# EAGLE library part IMS-TG-DMS (library di_pcb)
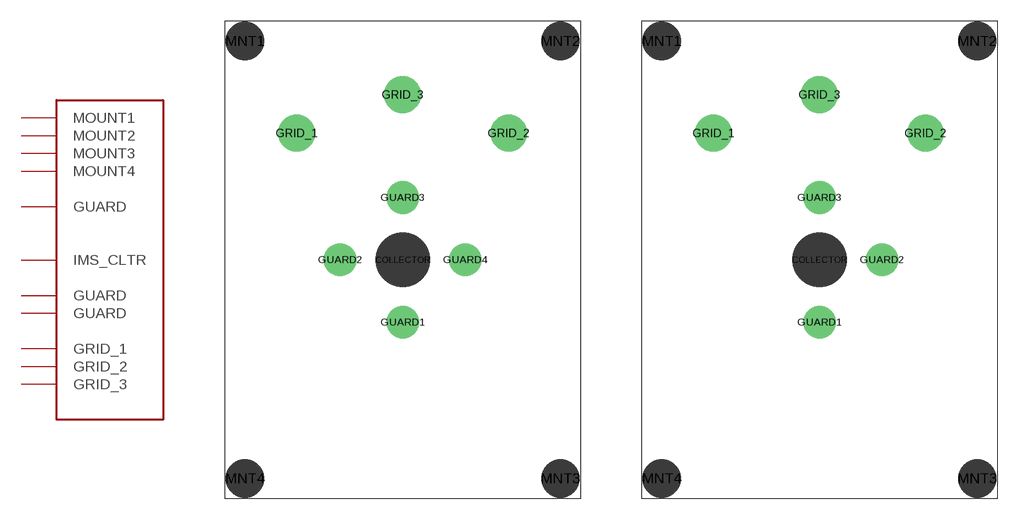
[diagram p0: symbol with the pads of IMS-TG-DMS; footprints IMS-TG-DMS, IMS-TG-DMS2]

Designator prefix J

## IMS-TG-DMS  [IMS-TG-DMS]
COLLECTOR  IMS_CLTR
GRID_1  GRID_1
GRID_2  GRID_2
GRID_3  GRID_3
GUARD1  GUARD
GUARD2  GUARD
GUARD3  GUARD
MNT1  MOUNT1
MNT2  MOUNT2
MNT3  MOUNT3
MNT4  MOUNT4

## IMS-TG-DMS2  [IMS-TG-DMS2]
Pads as for IMS-TG-DMS

## IMS-TG-DMS3  [IMS-TG-DMS3]
Pads as for IMS-TG-DMS

## IMS-TG-DMS3_REV2  [IMS-TG-DMS3_REV2]
Pads as for IMS-TG-DMS

## IMS-TG-DMSEIMS_PREAMP_REV2  [EIMS_PREAMP_REV2]
Pads as for IMS-TG-DMS

## Footprint IMS-TG-DMS (pad centres in mm)
TyndallGates IMS-DMS Rev2
drill 2.2: COLLECTOR 13,17.5
drill 1.8: GRID_1 5.25,26.75; GRID_2 20.75,26.75; GRID_3 13,29.565
drill 1.6: GUARD1 13,12.93; GUARD2 8.43,17.5; GUARD3 13,22.05; GUARD4 17.57,17.5
drill 1.5 pad 1.9: MNT1 1.47,33.5; MNT2 24.53,33.5; MNT3 24.53,1.5; MNT4 1.47,1.5

## Footprint IMS-TG-DMS2 (pad centres in mm)
drill 2.2: COLLECTOR 13,17.5
drill 1.8: GRID_1 5.25,26.75; GRID_2 20.75,26.75; GRID_3 13,29.565
drill 1.6: GUARD1 13,12.93; GUARD2 17.57,17.5; GUARD3 13,22.05
drill 1.5 pad 1.9: MNT1 1.47,33.5; MNT2 24.53,33.5; MNT3 24.53,1.5; MNT4 1.47,1.5

## Footprint IMS-TG-DMS3 (pad centres in mm)
drill 2.2 pad 3.5: COLLECTOR 13,17.5
drill 1.8 pad 3.1: GRID_1 5.25,26.75; GRID_2 20.75,26.75; GRID_3 13,29.565
drill 1.6 pad 2.4: GUARD1 13,12.93; GUARD2 8.43,17.5; GUARD3 13,22.05
drill 1.5 pad 1.9: MNT1 1.47,33.5; MNT2 24.53,33.5; MNT3 24.53,1.5; MNT4 1.47,1.5

## Footprint IMS-TG-DMS3_REV2 (pad centres in mm)
drill 2.2 pad 3.5: COLLECTOR 13.5,17.5
drill 1.8 pad 3.1: GRID_1 5.75,26.75; GRID_2 21.25,26.75; GRID_3 13.5,29.565
drill 1.6 pad 2.5: GUARD1 13.5,13.33; GUARD2 9.33,17.5; GUARD3 13.5,21.65
drill 1.5 pad 2.5: MNT1 1.95,33.12; MNT2 25.05,33.12; MNT3 25.05,1.88; MNT4 1.95,1.88

## Footprint EIMS_PREAMP_REV2 (pad centres in mm)
drill 2.2 pad 3.5: COLLECTOR 14.5,17.5
drill 1.8 pad 3.1: GRID_1 6.75,26.75; GRID_2 22.25,26.75; GRID_3 14.5,29.565
drill 1.6 pad 2.5: GUARD1 14.5,13.33; GUARD2 10.33,17.5; GUARD3 14.5,21.65
drill 1.5 pad 2.5: MNT1 1.78,33.12; MNT2 28.22,33.12; MNT3 28.22,1.88; MNT4 1.78,1.88